# Altium footprint library IC_Microchip_93LC56B-I-SN_eec_IPC_A.PcbLib: 1 footprints
Each footprint in its own frame and in the unit in brackets; x right, y up, seen from the top. Pads: shape width x height; smd on the part's side, far side on the other; paste and mask are expansions set on the pad; w line width, h text height; cw(c..) or ccw(c..) is an arc to the next point about the centre after c.
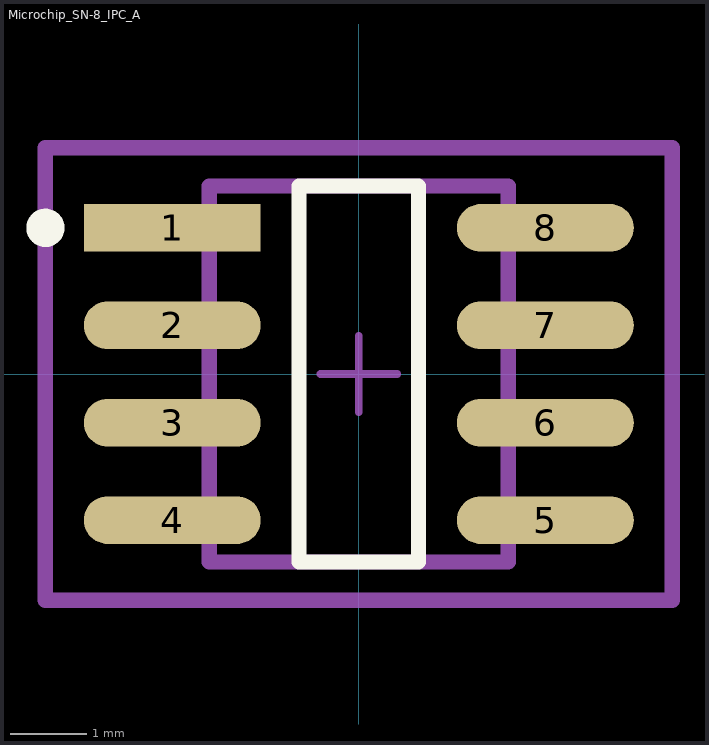
[diagram p0: the footprint, top view; thin cyan lines are the x and y axes]

## Microchip_SN-8_IPC_A [mil]
pads (8):
  rect 90.8x24.49 smd paste+0 mask+0: 1(-95.75,75)
  rrect100% 90.8x24.49 smd paste+0 mask+0: 2(-95.75,25) 3(-95.75,-25) 4(-95.75,-75) 5(95.75,-75) 6(95.75,-25) 7(95.75,25) 8(95.75,75)
Top Overlay:
  circle w9.84: c-160.84,75 r4.92
  lines w7.87: -30.67,-96.46 30.67,-96.46 30.67,96.46 -30.67,96.46 -30.67,-96.46
Mechanical 10:
  lines w7.87: -160.84,-116.14 160.84,-116.14 160.84,116.14 -160.84,116.14 -160.84,-116.14
  text ".Designator" at 0,7.41 h39.37
Mechanical 12:
  lines w7.87: -76.77,-96.46 76.77,-96.46 76.77,96.46 -76.77,96.46 -76.77,-96.46
Mechanical 15:
  lines w3.94: -19.68,0 19.68,0 ; 0,-19.68 0,19.68
  lines w7.87: -160.84,-116.14 160.84,-116.14 160.84,116.14 -160.84,116.14 -160.84,-116.14
3D body "IC_Microchip_93LC56B-I-SN_eec.STEP": height 10, standoff 0, extent -160.84,-116.14 160.84,116.14